# Altium footprint library PCB_Footprint.PcbLib: 124 footprints (part 4 of 8)
Each footprint in its own frame and in the unit in brackets; x right, y up, seen from the top. Pads: shape width x height; smd on the part's side, far side on the other; paste and mask are expansions set on the pad; w line width, h text height; cw(c..) or ccw(c..) is an arc to the next point about the centre after c.
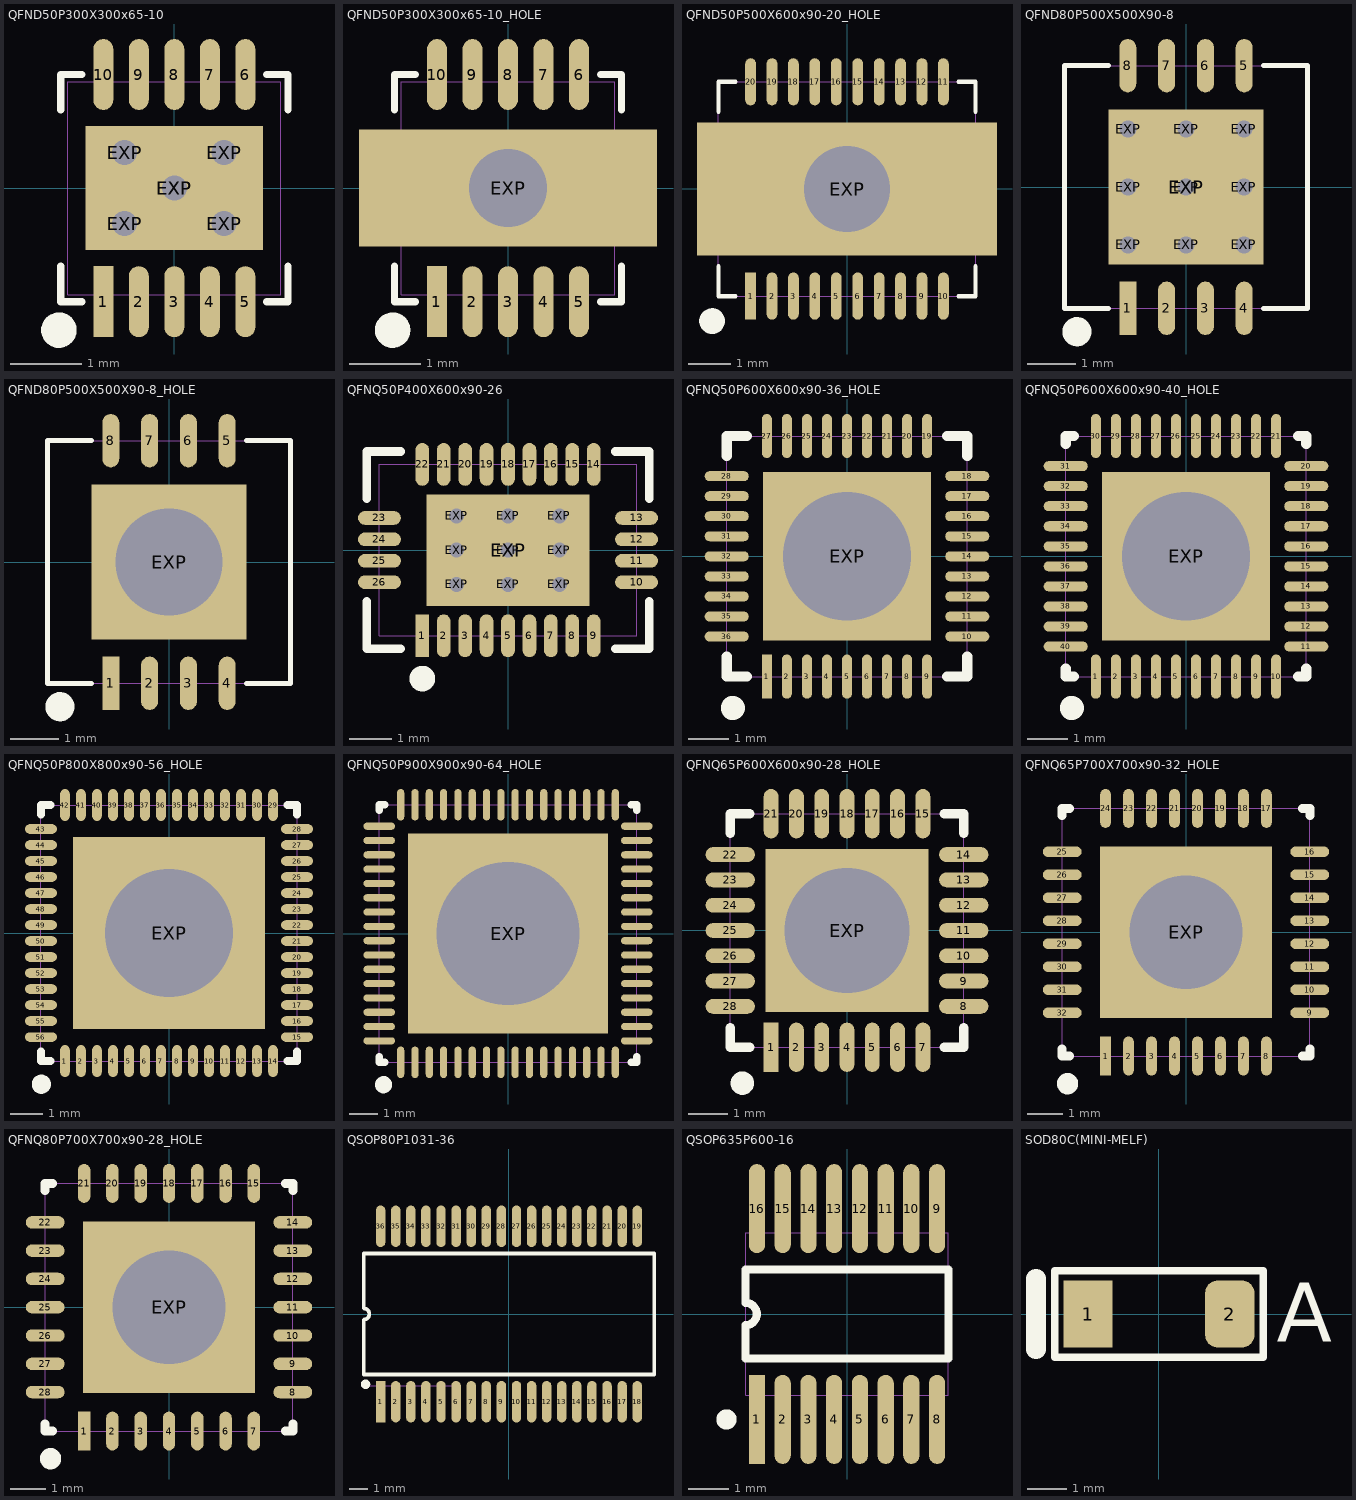
[diagram p3: the footprints below, top view; thin cyan lines are the x and y axes]

## QFND50P300X300x65-10 [mm] "QFN, 10-Leads, dual, Body 3x3x0.65mm, Pitch 0.5mm"
height 0.65
pads (16):
  rect 0.28x1 smd: 1(-1,-1.6)
  oval 0.28x1 smd: 2(-0.5,-1.6) 3(0,-1.6) 4(0.5,-1.6) 5(1,-1.6) 6(1,1.6) 7(0.5,1.6) 8(0,1.6) 9(-0.5,1.6) 10(-1,1.6)
  round 0.65 hole 0.35: EXP(-0.7,-0.5) EXP(-0.7,0.5) EXP(0,0) EXP(0.7,-0.5) EXP(0.7,0.5)
  rect 2.5x1.75 smd: EXP(0,0)
Top Overlay:
  circle w0.25: c-1.625,-2 r0.125
  lines w0.1: -1.6,-1.1 -1.6,-1.6 -1.3,-1.6 ; -1.6,1.1 -1.6,1.6 -1.3,1.6 ; 1.3,-1.6 1.6,-1.6 1.6,-1.1 ; 1.3,1.6 1.6,1.6 1.6,1.1
Bottom Solder:
  circle w0.4: c0,0 r0.2
Component Body:
  lines w0.01: -1.5,-1.5 1.5,-1.5 1.5,1.5 -1.5,1.5 -1.5,-1.5
3D body: height 0.65, standoff 0, extent -1.5,-1.5 1.5,1.5

## QFND50P300X300x65-10_HOLE [mm] "QFN, 10-Leads, dual, Body 3x3x0.65mm, Pitch 0.5mm, Hole in exposed pad"
height 0.65
pads (11):
  rect 0.28x1 smd: 1(-1,-1.6)
  oval 0.28x1 smd: 2(-0.5,-1.6) 3(0,-1.6) 4(0.5,-1.6) 5(1,-1.6) 6(1,1.6) 7(0.5,1.6) 8(0,1.6) 9(-0.5,1.6) 10(-1,1.6)
  rect 4.2x1.65 hole 1.1: EXP(0,0)
Top Overlay:
  circle w0.25: c-1.625,-2 r0.125
  lines w0.1: -1.6,-1.1 -1.6,-1.6 -1.3,-1.6 ; -1.6,1.1 -1.6,1.6 -1.3,1.6 ; 1.3,-1.6 1.6,-1.6 1.6,-1.1 ; 1.3,1.6 1.6,1.6 1.6,1.1
Component Body:
  lines w0.01: -1.5,-1.5 -1.5,1.5 1.5,1.5 1.5,-1.5 -1.5,-1.5
3D body: height 0.65, standoff 0, extent -1.5,-1.5 1.5,1.5

## QFND50P500X600x90-20_HOLE [mm] "QFN, 20-Leads, dual, Body 5x6x0.9mm, Pitch 0.5mm, Hole in exposed pad"
height 0.9
pads (21):
  rect 0.25x1.1 smd: 1(-2.25,-2.5)
  oval 0.25x1.1 smd: 2(-1.75,-2.5) 3(-1.25,-2.5) 4(-0.75,-2.5) 5(-0.25,-2.5) 6(0.25,-2.5) 7(0.75,-2.5) 8(1.25,-2.5) 9(1.75,-2.5) 10(2.25,-2.5) 11(2.25,2.5) 12(1.75,2.5) 13(1.25,2.5) 14(0.75,2.5) 15(0.25,2.5) 16(-0.25,2.5) 17(-0.75,2.5) 18(-1.25,2.5) 19(-1.75,2.5) 20(-2.25,2.5)
  rect 7x3.1 hole 2: EXP(0,-0.001)
Top Overlay:
  circle w0.3: c-3.148,-3.083 r0.15
  lines w0.102: -3,-1.8 -3,-2.5 -2.6,-2.5 ; -3,1.8 -3,2.5 -2.6,2.5 ; 2.6,-2.5 3,-2.5 3,-1.8 ; 2.6,2.5 3,2.5 3,1.8
Component Body:
  lines w0.01: -3,-2.5 -3,2.5 3,2.5 3,-2.5 -3,-2.5
3D body: height 0.9, standoff 0, extent -3,-2.5 3,2.5

## QFND80P500X500X90-8 [mm] "QFN, 8-Leads, dual (depopulated 16pin quad), Body 5x5x0.9mm, Pitch 0.8mm"
height 0.9
pads (18):
  rect 0.35x1.1 smd: 1(-1.2,-2.499)
  oval 0.35x1.1 smd: 2(-0.4,-2.499) 3(0.4,-2.499) 4(1.2,-2.499) 5(1.2,2.501) 6(0.4,2.501) 7(-0.4,2.501) 8(-1.2,2.501)
  round 0.65 hole 0.35: EXP(-1.194,-1.194) EXP(-1.194,0) EXP(-1.194,1.194) EXP(0,-1.194) EXP(0,0) EXP(0,1.194) EXP(1.194,-1.194) EXP(1.194,0) EXP(1.194,1.194)
  rect 3.2x3.2 smd: EXP(0,0)
Top Overlay:
  circle w0.3: c-2.248,-2.982 r0.15
  lines w0.102: -1.6,-2.499 -2.5,-2.499 -2.5,2.501 -1.6,2.501 ; 1.6,-2.499 2.5,-2.499 2.5,2.501 1.6,2.501
Bottom Solder:
  circle w0.4: c0,0 r0.2
Component Body:
  lines w0.01: -2.5,-2.499 2.5,-2.499 2.5,2.501 -2.5,2.501 -2.5,-2.499
3D body: height 0.9, standoff 0, extent -2.5,-2.499 2.5,2.501

## QFND80P500X500X90-8_HOLE [mm] "QFN, 8-Leads, dual (depopulated 16pin quad), Body 5x5x0.9mm, Pitch 0.8mm, Hole in exposed pad"
height 0.9
pads (9):
  rect 0.35x1.1 smd: 1(-1.2,-2.499)
  oval 0.35x1.1 smd: 2(-0.4,-2.499) 3(0.4,-2.499) 4(1.2,-2.499) 5(1.2,2.501) 6(0.4,2.501) 7(-0.4,2.501) 8(-1.2,2.501)
  rect 3.2x3.2 hole 2.2: EXP(0,0)
Top Overlay:
  circle w0.3: c-2.248,-2.982 r0.15
  lines w0.102: -1.6,-2.499 -2.5,-2.499 -2.5,2.501 -1.6,2.501 ; 1.6,-2.499 2.5,-2.499 2.5,2.501 1.6,2.501
Component Body:
  lines w0.01: -2.5,-2.499 -2.5,2.501 2.5,2.501 2.5,-2.499 -2.5,-2.499
3D body: height 0.9, standoff 0, extent -2.5,-2.499 2.5,2.501

## QFNQ50P400X600x90-26 [mm] "QFN, 26-Leads, quad, Body 4x6x0.9mm, Pitch 0.5mm"
height 0.9
pads (36):
  rect 0.32x1 smd: 1(-2,-2)
  oval 0.32x1 smd: 2(-1.5,-2) 3(-1,-2) 4(-0.5,-2) 5(0,-2) 6(0.5,-2) 7(1,-2) 8(1.5,-2) 9(2,-2) 14(2,2) 15(1.5,2) 16(1,2) 17(0.5,2) 18(0,2) 19(-0.5,2) 20(-1,2) 21(-1.5,2) 22(-2,2)
  oval 1x0.32 smd: 10(3,-0.75) 11(3,-0.25) 12(3,0.25) 13(3,0.75) 23(-3,0.75) 24(-3,0.25) 25(-3,-0.25) 26(-3,-0.75)
  round 0.65 hole 0.35: EXP(-1.2,-0.8) EXP(-1.2,0) EXP(-1.2,0.8) EXP(0,-0.8) EXP(0,0) EXP(0,0.8) EXP(1.2,-0.8) EXP(1.2,0) EXP(1.2,0.8)
  rect 3.8x2.6 smd: EXP(0,0)
Top Overlay:
  circle w0.3: c-2,-3 r0.15
  lines w0.2: -3.3,-1.2 -3.3,-2.3 -2.5,-2.3 ; -3.3,1.2 -3.3,2.3 -2.5,2.3 ; 2.5,-2.3 3.3,-2.3 3.3,-1.2 ; 2.5,2.3 3.3,2.3 3.3,1.2
Top Solder:
  lines w0.4: -1.8,-1.5 1.8,-1.5 ; -1.8,1.5 1.8,1.5
Bottom Solder:
  circle w0.4: c0,-0.001 r0.2
Component Body:
  lines w0.01: -3,-2 -3,2 3,2 3,-2 -3,-2
3D body: height 0.9, standoff 0, extent -3,-2 3,2

## QFNQ50P600X600x90-36_HOLE [mm] "QFN, 36-Leads, quad, Body 6x6x0.9mm, Pitch 0.5mm, Hole in exposed pad"
height 0.9
pads (37):
  rect 0.25x1.1 smd: 1(-2,-3)
  oval 0.25x1.1 smd: 2(-1.5,-3) 3(-1,-3) 4(-0.5,-3) 5(0,-3) 6(0.5,-3) 7(1,-3) 8(1.5,-3) 9(2,-3) 19(2,3) 20(1.5,3) 21(1,3) 22(0.5,3) 23(0,3) 24(-0.5,3) 25(-1,3) 26(-1.5,3) 27(-2,3)
  oval 1.1x0.25 smd: 10(3,-2) 11(3,-1.5) 12(3,-1) 13(3,-0.5) 14(3,0) 15(3,0.5) 16(3,1) 17(3,1.5) 18(3,2) 28(-3,2) 29(-3,1.5) 30(-3,1) 31(-3,0.5) 32(-3,0) 33(-3,-0.5) 34(-3,-1) 35(-3,-1.5) 36(-3,-2)
  rect 4.2x4.2 hole 3.2: EXP(0,-0.001)
Top Overlay:
  circle w0.3: c-2.848,-3.783 r0.15
  lines w0.254: -3,-2.5 -3,-3 -2.5,-3 ; -3,2.5 -3,3 -2.5,3 ; 2.5,-3 3,-3 3,-2.5 ; 2.5,3 3,3 3,2.5
Component Body:
  lines w0.01: -3,-3 -3,3 3,3 3,-3 -3,-3
3D body: height 0.9, standoff 0, extent -3,-3 3,3

## QFNQ50P600X600x90-40_HOLE [mm] "QFN, 40-Leads, quad, Body 6x6x0.9mm, Pitch 0.5mm, Hole in exposed pad"
height 0.9
pads (41):
  oval 0.25x1.1 smd: 1(-2.25,-3) 2(-1.75,-3) 3(-1.25,-3) 4(-0.75,-3) 5(-0.25,-3) 6(0.25,-3) 7(0.75,-3) 8(1.25,-3) 9(1.75,-3) 10(2.25,-3) 21(2.25,3) 22(1.75,3) 23(1.25,3) 24(0.75,3) 25(0.25,3) 26(-0.25,3) 27(-0.75,3) 28(-1.25,3) 29(-1.75,3) 30(-2.25,3)
  oval 1.1x0.25 smd: 11(3,-2.25) 12(3,-1.75) 13(3,-1.25) 14(3,-0.75) 15(3,-0.25) 16(3,0.25) 17(3,0.75) 18(3,1.25) 19(3,1.75) 20(3,2.25) 31(-3,2.25) 32(-3,1.75) 33(-3,1.25) 34(-3,0.75) 35(-3,0.25) 36(-3,-0.25) 37(-3,-0.75) 38(-3,-1.25) 39(-3,-1.75) 40(-3,-2.25)
  rect 4.2x4.2 hole 3.2: EXP(0,-0.001)
Top Overlay:
  circle w0.3: c-2.848,-3.783 r0.15
  lines w0.254: -3,-2.8 -3,-3 -2.8,-3 ; -3,2.8 -3,3 -2.8,3 ; 2.8,-3 3,-3 3,-2.8 ; 2.8,3 3,3 3,2.8
Component Body:
  lines w0.01: -3,-3 3,-3 3,3 -3,3 -3,-3
3D body: height 0.9, standoff 0, extent -3,-3 3,3

## QFNQ50P800X800x90-56_HOLE [mm] "QFN, 56-Leads, quad, Body 8x8x0.9mm, Pitch 0.5mm, Hole in exposed pad"
height 0.9
pads (57):
  oval 0.3x1 smd: 1(-3.25,-4) 2(-2.75,-4) 3(-2.25,-4) 4(-1.75,-4) 5(-1.25,-4) 6(-0.75,-4) 7(-0.25,-4) 8(0.25,-4) 9(0.75,-4) 10(1.25,-4) 11(1.75,-4) 12(2.25,-4) 13(2.75,-4) 14(3.25,-4) 29(3.25,4) 30(2.75,4) 31(2.25,4) 32(1.75,4) 33(1.25,4) 34(0.75,4) 35(0.25,4) 36(-0.25,4) 37(-0.75,4) 38(-1.25,4) 39(-1.75,4) 40(-2.25,4) 41(-2.75,4) 42(-3.25,4)
  oval 1x0.3 smd: 15(4,-3.25) 16(4,-2.75) 17(4,-2.25) 18(4,-1.75) 19(4,-1.25) 20(4,-0.75) 21(4,-0.25) 22(4,0.25) 23(4,0.75) 24(4,1.25) 25(4,1.75) 26(4,2.25) 27(4,2.75) 28(4,3.25) 43(-4,3.25) 44(-4,2.75) 45(-4,2.25) 46(-4,1.75) 47(-4,1.25) 48(-4,0.75) 49(-4,0.25) 50(-4,-0.25) 51(-4,-0.75) 52(-4,-1.25) 53(-4,-1.75) 54(-4,-2.25) 55(-4,-2.75) 56(-4,-3.25)
  rect 6x6 hole 4: EXP(0,0)
Top Overlay:
  circle w0.3: c-3.988,-4.723 r0.15
  lines w0.254: -4,-3.7 -4,-4 -3.7,-4 ; -4,3.7 -4,4 -3.7,4 ; 3.7,-4 4,-4 4,-3.7 ; 3.7,4 4,4 4,3.7
Component Body:
  lines w0.01: -4,-4 -4,4 4,4 4,-4 -4,-4
3D body: height 0.9, standoff 0, extent -4,-4 4,4

## QFNQ50P900X900x90-64_HOLE [mm] "QFN, 54-Leads, quad, Body 9x9x0.9mm, Pitch 0.5mm, Hole in exposed pad"
height 0.9
pads (65):
  oval 0.25x1.1 smd: 1(-3.75,-4.5) 2(-3.25,-4.5) 3(-2.75,-4.5) 4(-2.25,-4.5) 5(-1.75,-4.5) 6(-1.25,-4.5) 7(-0.75,-4.5) 8(-0.25,-4.5) 9(0.25,-4.5) 10(0.75,-4.5) 11(1.25,-4.5) 12(1.75,-4.5) 13(2.25,-4.5) 14(2.75,-4.5) 15(3.25,-4.5) 16(3.75,-4.5) 33(3.75,4.5) 34(3.25,4.5) 35(2.75,4.5) 36(2.25,4.5) 37(1.75,4.5) 38(1.25,4.5) 39(0.75,4.5) 40(0.25,4.5) 41(-0.25,4.5) 42(-0.75,4.5) 43(-1.25,4.5) 44(-1.75,4.5) 45(-2.25,4.5) 46(-2.75,4.5) 47(-3.25,4.5) 48(-3.75,4.5)
  oval 1.1x0.25 smd: 17(4.5,-3.75) 18(4.5,-3.25) 19(4.5,-2.75) 20(4.5,-2.25) 21(4.5,-1.75) 22(4.5,-1.25) 23(4.5,-0.75) 24(4.5,-0.25) 25(4.5,0.25) 26(4.5,0.75) 27(4.5,1.25) 28(4.5,1.75) 29(4.5,2.25) 30(4.5,2.75) 31(4.5,3.25) 32(4.5,3.75) 49(-4.5,3.75) 50(-4.5,3.25) 51(-4.5,2.75) 52(-4.5,2.25) 53(-4.5,1.75) 54(-4.5,1.25) 55(-4.5,0.75) 56(-4.5,0.25) 57(-4.5,-0.25) 58(-4.5,-0.75) 59(-4.5,-1.25) 60(-4.5,-1.75) 61(-4.5,-2.25) 62(-4.5,-2.75) 63(-4.5,-3.25) 64(-4.5,-3.75)
  rect 7x7 hole 5: EXP(0,-0.001)
Top Overlay:
  circle w0.3: c-4.348,-5.283 r0.15
  lines w0.254: -4.5,-4.3 -4.5,-4.5 -4.3,-4.5 ; -4.5,4.3 -4.5,4.5 -4.3,4.5 ; 4.3,-4.5 4.5,-4.5 4.5,-4.3 ; 4.3,4.5 4.5,4.5 4.5,4.3
Component Body:
  lines w0.01: -4.5,-4.5 -4.5,4.5 4.5,4.5 4.5,-4.5 -4.5,-4.5
3D body: height 0.9, standoff 0, extent -4.5,-4.5 4.5,4.5

## QFNQ65P600X600x90-28_HOLE [mm] "QFN, 28-Leads, quad, Body 6x6x0.9mm, Pitch 0.65mm, Hole in exposed pad"
height 0.9
pads (29):
  rect 0.381x1.27 smd: 1(-1.95,-3)
  oval 0.381x1.27 smd: 2(-1.3,-3) 3(-0.65,-3) 4(0,-3) 5(0.65,-3) 6(1.3,-3) 7(1.95,-3) 15(1.95,3) 16(1.3,3) 17(0.65,3) 18(0,3) 19(-0.65,3) 20(-1.3,3) 21(-1.95,3)
  oval 1.27x0.381 smd: 8(3,-1.95) 9(3,-1.3) 10(3,-0.65) 11(3,0) 12(3,0.65) 13(3,1.3) 14(3,1.95) 22(-3,1.95) 23(-3,1.3) 24(-3,0.65) 25(-3,0) 26(-3,-0.65) 27(-3,-1.3) 28(-3,-1.95)
  rect 4.2x4.2 hole 3.2: EXP(0,-0.001)
Top Overlay:
  circle w0.3: c-2.688,-3.923 r0.15
  lines w0.254: -3,-2.5 -3,-3 -2.5,-3 ; -3,2.5 -3,3 -2.5,3 ; 2.5,-3 3,-3 3,-2.5 ; 2.5,3 3,3 3,2.5
Component Body:
  lines w0.01: -3,-3 -3,3 3,3 3,-3 -3,-3
3D body: height 0.8, standoff 0, extent -3,-3 3,3

## QFNQ65P700X700x90-32_HOLE [mm] "QFN, 32-Leads, quad, Body 7x7x0.9mm, Pitch 0.65mm, Hole in exposed pad"
height 0.9
pads (33):
  rect 0.3x1.1 smd: 1(-2.275,-3.5)
  oval 0.3x1.1 smd: 2(-1.625,-3.5) 3(-0.975,-3.5) 4(-0.325,-3.5) 5(0.325,-3.5) 6(0.975,-3.5) 7(1.625,-3.5) 8(2.275,-3.5) 17(2.275,3.5) 18(1.625,3.5) 19(0.975,3.5) 20(0.325,3.5) 21(-0.325,3.5) 22(-0.975,3.5) 23(-1.625,3.5) 24(-2.275,3.5)
  oval 1.1x0.3 smd: 9(3.5,-2.275) 10(3.5,-1.625) 11(3.5,-0.975) 12(3.5,-0.325) 13(3.5,0.325) 14(3.5,0.975) 15(3.5,1.625) 16(3.5,2.275) 25(-3.5,2.275) 26(-3.5,1.625) 27(-3.5,0.975) 28(-3.5,0.325) 29(-3.5,-0.325) 30(-3.5,-0.975) 31(-3.5,-1.625) 32(-3.5,-2.275)
  rect 4.85x4.85 hole 3.2: EXP(0,-0.001)
Top Overlay:
  circle w0.3: c-3.348,-4.283 r0.15
  lines w0.254: -3.5,-3.3 -3.5,-3.5 -3.3,-3.5 ; -3.5,3.3 -3.5,3.5 -3.3,3.5 ; 3.3,-3.5 3.5,-3.5 3.5,-3.3 ; 3.3,3.5 3.5,3.5 3.5,3.3
Component Body:
  lines w0.01: -3.5,-3.5 3.5,-3.5 3.5,3.5 -3.5,3.5 -3.5,-3.5
3D body: height 0.9, standoff 0, extent -3.5,-3.5 3.5,3.5

## QFNQ80P700X700x90-28_HOLE [mm] "QFN, 28-Leads, quad, Body 7x7x0.9mm, Pitch 0.8mm, Hole in exposed pad"
height 0.9
pads (29):
  rect 0.35x1.1 smd: 1(-2.4,-3.5)
  oval 0.35x1.1 smd: 2(-1.6,-3.5) 3(-0.8,-3.5) 4(0,-3.5) 5(0.8,-3.5) 6(1.6,-3.5) 7(2.4,-3.5) 15(2.4,3.5) 16(1.6,3.5) 17(0.8,3.5) 18(0,3.5) 19(-0.8,3.5) 20(-1.6,3.5) 21(-2.4,3.5)
  oval 1.1x0.35 smd: 8(3.5,-2.4) 9(3.5,-1.6) 10(3.5,-0.8) 11(3.5,0) 12(3.5,0.8) 13(3.5,1.6) 14(3.5,2.4) 22(-3.5,2.4) 23(-3.5,1.6) 24(-3.5,0.8) 25(-3.5,0) 26(-3.5,-0.8) 27(-3.5,-1.6) 28(-3.5,-2.4)
  rect 4.85x4.85 hole 3.2: EXP(0,-0.001)
Top Overlay:
  circle w0.3: c-3.348,-4.283 r0.15
  lines w0.254: -3.5,-3.3 -3.5,-3.5 -3.3,-3.5 ; -3.5,3.3 -3.5,3.5 -3.3,3.5 ; 3.3,-3.5 3.5,-3.5 3.5,-3.3 ; 3.3,3.5 3.5,3.5 3.5,3.3
Component Body:
  lines w0.01: -3.5,-3.5 -3.5,3.5 3.5,3.5 3.5,-3.5 -3.5,-3.5
3D body: height 0.9, standoff 0, extent -3.5,-3.5 3.5,3.5

## QSOP80P1031-36 [mm] "QSOP; 36 Leads; Body Width 7.5 mm; Pitch 0.8 mm"
height 2.54
pads (36):
  rect 0.5x2.2 smd: 1(-6.8,-4.65)
  oval 0.5x2.2 smd: 2(-6,-4.65) 3(-5.2,-4.65) 4(-4.4,-4.65) 5(-3.6,-4.65) 6(-2.8,-4.65) 7(-2,-4.65) 8(-1.2,-4.65) 9(-0.4,-4.65) 10(0.4,-4.65) 11(1.2,-4.65) 12(2,-4.65) 13(2.8,-4.65) 14(3.6,-4.65) 15(4.4,-4.65) 16(5.2,-4.65) 17(6,-4.65) 18(6.8,-4.65) 19(6.8,4.65) 20(6,4.65) 21(5.2,4.65) 22(4.4,4.65) 23(3.6,4.65) 24(2.8,4.65) 25(2,4.65) 26(1.2,4.65) 27(0.4,4.65) 28(-0.4,4.65) 29(-1.2,4.65) 30(-2,4.65) 31(-2.8,4.65) 32(-3.6,4.65) 33(-4.4,4.65) 34(-5.2,4.65) 35(-6,4.65) 36(-6.8,4.65)
Top Overlay:
  circle w0.25: c-7.6,-3.725 r0.125
  lines w0.2: -7.7,-3.2 7.7,-3.2 7.7,3.2 -7.7,3.2 -7.7,0.3 cw(c-7.7,0) -7.7,-0.3 -7.7,-3.2
Component Body:
  lines w0.01: -7.7,-3.8 -2.7,-3.8
3D body: height 2.54, standoff 0, extent -7.7,-3.8 7.7,3.8
3D body: height 0.3, standoff 0, extent -0.6,-5.25 -0.2,-4
3D body: height 1.4, standoff 0, extent -0.6,-4.3 -0.2,-4
3D body: height 1.4, standoff 1.1, extent -0.6,-4.3 -0.2,-3.8
3D body: height 0.3, standoff 0, extent -1.4,-5.25 -1,-4
3D body: height 1.4, standoff 0, extent -1.4,-4.3 -1,-4
3D body: height 1.4, standoff 1.1, extent -1.4,-4.3 -1,-3.8
3D body: height 0.3, standoff 0, extent -2.2,-5.25 -1.8,-4
3D body: height 1.4, standoff 0, extent -2.2,-4.3 -1.8,-4
3D body: height 1.4, standoff 1.1, extent -2.2,-4.3 -1.8,-3.8
3D body: height 0.3, standoff 0, extent -3,-5.25 -2.6,-4
3D body: height 1.4, standoff 0, extent -3,-4.3 -2.6,-4
3D body: height 1.4, standoff 1.1, extent -3,-4.3 -2.6,-3.8
3D body: height 0.3, standoff 0, extent -3.8,-5.25 -3.4,-4
3D body: height 1.4, standoff 0, extent -3.8,-4.3 -3.4,-4
3D body: height 1.4, standoff 1.1, extent -3.8,-4.3 -3.4,-3.8
3D body: height 0.3, standoff 0, extent -4.6,-5.25 -4.2,-4
3D body: height 1.4, standoff 0, extent -4.6,-4.3 -4.2,-4
3D body: height 1.4, standoff 1.1, extent -4.6,-4.3 -4.2,-3.8
3D body: height 0.3, standoff 0, extent -5.4,-5.25 -5,-4
3D body: height 1.4, standoff 0, extent -5.4,-4.3 -5,-4
3D body: height 1.4, standoff 1.1, extent -5.4,-4.3 -5,-3.8
3D body: height 0.3, standoff 0, extent -6.2,-5.25 -5.8,-4
3D body: height 1.4, standoff 0, extent -6.2,-4.3 -5.8,-4
3D body: height 1.4, standoff 1.1, extent -6.2,-4.3 -5.8,-3.8
3D body: height 0.3, standoff 0, extent -7,-5.25 -6.6,-4
3D body: height 1.4, standoff 0, extent -7,-4.3 -6.6,-4
3D body: height 1.4, standoff 1.1, extent -7,-4.3 -6.6,-3.8
3D body: height 1.4, standoff 1.1, extent 6.6,-4.3 7,-3.8
3D body: height 1.4, standoff 0, extent 6.6,-4.3 7,-4
3D body: height 0.3, standoff 0, extent 6.6,-5.25 7,-4
3D body: height 1.4, standoff 1.1, extent 5.8,-4.3 6.2,-3.8
3D body: height 1.4, standoff 0, extent 5.8,-4.3 6.2,-4
3D body: height 0.3, standoff 0, extent 5.8,-5.25 6.2,-4
3D body: height 1.4, standoff 1.1, extent 5,-4.3 5.4,-3.8
3D body: height 1.4, standoff 0, extent 5,-4.3 5.4,-4
3D body: height 0.3, standoff 0, extent 5,-5.25 5.4,-4
3D body: height 1.4, standoff 1.1, extent 4.2,-4.3 4.6,-3.8
3D body: height 1.4, standoff 0, extent 4.2,-4.3 4.6,-4
3D body: height 0.3, standoff 0, extent 4.2,-5.25 4.6,-4
3D body: height 1.4, standoff 1.1, extent 3.4,-4.3 3.8,-3.8
3D body: height 1.4, standoff 0, extent 3.4,-4.3 3.8,-4
3D body: height 0.3, standoff 0, extent 3.4,-5.25 3.8,-4
3D body: height 1.4, standoff 1.1, extent 2.6,-4.3 3,-3.8
3D body: height 1.4, standoff 0, extent 2.6,-4.3 3,-4
3D body: height 0.3, standoff 0, extent 2.6,-5.25 3,-4
3D body: height 1.4, standoff 1.1, extent 1.8,-4.3 2.2,-3.8
3D body: height 1.4, standoff 0, extent 1.8,-4.3 2.2,-4
3D body: height 0.3, standoff 0, extent 1.8,-5.25 2.2,-4
3D body: height 1.4, standoff 1.1, extent 1,-4.3 1.4,-3.8
3D body: height 1.4, standoff 0, extent 1,-4.3 1.4,-4
3D body: height 0.3, standoff 0, extent 1,-5.25 1.4,-4
3D body: height 1.4, standoff 1.1, extent 0.2,-4.3 0.6,-3.8
3D body: height 1.4, standoff 0, extent 0.2,-4.3 0.6,-4
3D body: height 0.3, standoff 0, extent 0.2,-5.25 0.6,-4
3D body: height 0.3, standoff 0, extent -0.6,4 -0.2,5.25
3D body: height 1.4, standoff 0, extent -0.6,4 -0.2,4.3
3D body: height 1.4, standoff 1.1, extent -0.6,3.8 -0.2,4.3
3D body: height 0.3, standoff 0, extent -1.4,4 -1,5.25
3D body: height 1.4, standoff 0, extent -1.4,4 -1,4.3
3D body: height 1.4, standoff 1.1, extent -1.4,3.8 -1,4.3
3D body: height 0.3, standoff 0, extent -2.2,4 -1.8,5.25
3D body: height 1.4, standoff 0, extent -2.2,4 -1.8,4.3
3D body: height 1.4, standoff 1.1, extent -2.2,3.8 -1.8,4.3
3D body: height 0.3, standoff 0, extent -3,4 -2.6,5.25
3D body: height 1.4, standoff 0, extent -3,4 -2.6,4.3
3D body: height 1.4, standoff 1.1, extent -3,3.8 -2.6,4.3
3D body: height 0.3, standoff 0, extent -3.8,4 -3.4,5.25
3D body: height 1.4, standoff 0, extent -3.8,4 -3.4,4.3
3D body: height 1.4, standoff 1.1, extent -3.8,3.8 -3.4,4.3
3D body: height 0.3, standoff 0, extent -4.6,4 -4.2,5.25
3D body: height 1.4, standoff 0, extent -4.6,4 -4.2,4.3
3D body: height 1.4, standoff 1.1, extent -4.6,3.8 -4.2,4.3
3D body: height 0.3, standoff 0, extent -5.4,4 -5,5.25
3D body: height 1.4, standoff 0, extent -5.4,4 -5,4.3
3D body: height 1.4, standoff 1.1, extent -5.4,3.8 -5,4.3
3D body: height 0.3, standoff 0, extent -6.2,4 -5.8,5.25
3D body: height 1.4, standoff 0, extent -6.2,4 -5.8,4.3
3D body: height 1.4, standoff 1.1, extent -6.2,3.8 -5.8,4.3
3D body: height 0.3, standoff 0, extent -7,4 -6.6,5.25
3D body: height 1.4, standoff 0, extent -7,4 -6.6,4.3
3D body: height 1.4, standoff 1.1, extent -7,3.8 -6.6,4.3
3D body: height 1.4, standoff 1.1, extent 6.6,3.8 7,4.3
3D body: height 1.4, standoff 0, extent 6.6,4 7,4.3
3D body: height 0.3, standoff 0, extent 6.6,4 7,5.25
3D body: height 1.4, standoff 1.1, extent 5.8,3.8 6.2,4.3
3D body: height 1.4, standoff 0, extent 5.8,4 6.2,4.3
3D body: height 0.3, standoff 0, extent 5.8,4 6.2,5.25
3D body: height 1.4, standoff 1.1, extent 5,3.8 5.4,4.3
3D body: height 1.4, standoff 0, extent 5,4 5.4,4.3
3D body: height 0.3, standoff 0, extent 5,4 5.4,5.25
3D body: height 1.4, standoff 1.1, extent 4.2,3.8 4.6,4.3
3D body: height 1.4, standoff 0, extent 4.2,4 4.6,4.3
3D body: height 0.3, standoff 0, extent 4.2,4 4.6,5.25
3D body: height 1.4, standoff 1.1, extent 3.4,3.8 3.8,4.3
3D body: height 1.4, standoff 0, extent 3.4,4 3.8,4.3
3D body: height 0.3, standoff 0, extent 3.4,4 3.8,5.25
3D body: height 1.4, standoff 1.1, extent 2.6,3.8 3,4.3
3D body: height 1.4, standoff 0, extent 2.6,4 3,4.3
3D body: height 0.3, standoff 0, extent 2.6,4 3,5.25
3D body: height 1.4, standoff 1.1, extent 1.8,3.8 2.2,4.3
3D body: height 1.4, standoff 0, extent 1.8,4 2.2,4.3
3D body: height 0.3, standoff 0, extent 1.8,4 2.2,5.25
3D body: height 1.4, standoff 1.1, extent 1,3.8 1.4,4.3
3D body: height 1.4, standoff 0, extent 1,4 1.4,4.3
3D body: height 0.3, standoff 0, extent 1,4 1.4,5.25
3D body: height 1.4, standoff 1.1, extent 0.2,3.8 0.6,4.3
3D body: height 1.4, standoff 0, extent 0.2,4 0.6,4.3
3D body: height 0.3, standoff 0, extent 0.2,4 0.6,5.25

## QSOP635P600-16 [mm] "QSOP; 16 Leads; Body Width 3.9 mm; Pitch 0.635 mm"
height 1.76
pads (16):
  rect 0.4x2.2 smd: 1(-2.222,-2.6)
  oval 0.4x2.2 smd: 2(-1.587,-2.6) 3(-0.953,-2.6) 4(-0.318,-2.6) 5(0.318,-2.6) 6(0.953,-2.6) 7(1.587,-2.6) 8(2.222,-2.6) 9(2.222,2.6) 10(1.587,2.6) 11(0.953,2.6) 12(0.318,2.6) 13(-0.318,2.6) 14(-0.953,2.6) 15(-1.587,2.6) 16(-2.222,2.6)
Top Overlay:
  circle w0.25: c-2.973,-2.6 r0.125
  lines w0.2: -2.5,-1.1 2.5,-1.1 2.5,1.1 -2.5,1.1 -2.5,0.275 cw(c-2.5,0) -2.5,-0.275 -2.5,-1.1
Component Body:
  lines w0.01: -2.5,-2 -2.5,2 2.5,2 2.5,-2 -2.5,-2
3D body: height 0.2, standoff 0, extent 2.073,2.3 2.373,3.1
3D body: height 0.75, standoff 0.1, extent 2.073,2.3 2.373,2.5
3D body: height 0.95, standoff 0.75, extent 2.073,2 2.373,2.5
3D body: height 0.2, standoff 0, extent 1.438,2.3 1.738,3.1
3D body: height 0.75, standoff 0.1, extent 1.438,2.3 1.738,2.5
3D body: height 0.95, standoff 0.75, extent 1.438,2 1.738,2.5
3D body: height 0.2, standoff 0, extent 0.803,2.3 1.103,3.1
3D body: height 0.75, standoff 0.1, extent 0.803,2.3 1.103,2.5
3D body: height 0.95, standoff 0.75, extent 0.803,2 1.103,2.5
3D body: height 0.2, standoff 0, extent 0.168,2.3 0.468,3.1
3D body: height 0.75, standoff 0.1, extent 0.168,2.3 0.468,2.5
3D body: height 0.95, standoff 0.75, extent 0.168,2 0.468,2.5
3D body: height 0.2, standoff 0, extent -0.467,2.3 -0.167,3.1
3D body: height 0.75, standoff 0.1, extent -0.467,2.3 -0.167,2.5
3D body: height 0.95, standoff 0.75, extent -0.467,2 -0.167,2.5
3D body: height 0.2, standoff 0, extent -1.102,2.3 -0.802,3.1
3D body: height 0.75, standoff 0.1, extent -1.102,2.3 -0.802,2.5
3D body: height 0.95, standoff 0.75, extent -1.102,2 -0.802,2.5
3D body: height 0.2, standoff 0, extent -1.737,2.3 -1.437,3.1
3D body: height 0.75, standoff 0.1, extent -1.737,2.3 -1.437,2.5
3D body: height 0.95, standoff 0.75, extent -1.737,2 -1.437,2.5
3D body: height 0.2, standoff 0, extent -2.372,2.3 -2.072,3.1
3D body: height 0.75, standoff 0.1, extent -2.372,2.3 -2.072,2.5
3D body: height 0.95, standoff 0.75, extent -2.372,2 -2.072,2.5
3D body: height 0.95, standoff 0.75, extent 2.072,-2.5 2.372,-2
3D body: height 0.75, standoff 0.1, extent 2.072,-2.5 2.372,-2.3
3D body: height 0.2, standoff 0, extent 2.072,-3.1 2.372,-2.3
3D body: height 0.95, standoff 0.75, extent 1.437,-2.5 1.737,-2
3D body: height 0.75, standoff 0.1, extent 1.437,-2.5 1.737,-2.3
3D body: height 0.2, standoff 0, extent 1.437,-3.1 1.737,-2.3
3D body: height 0.95, standoff 0.75, extent 0.802,-2.5 1.102,-2
3D body: height 0.75, standoff 0.1, extent 0.802,-2.5 1.102,-2.3
3D body: height 0.2, standoff 0, extent 0.802,-3.1 1.102,-2.3
3D body: height 0.95, standoff 0.75, extent 0.167,-2.5 0.467,-2
3D body: height 0.75, standoff 0.1, extent 0.167,-2.5 0.467,-2.3
3D body: height 0.2, standoff 0, extent 0.167,-3.1 0.467,-2.3
3D body: height 0.95, standoff 0.75, extent -0.468,-2.5 -0.168,-2
3D body: height 0.75, standoff 0.1, extent -0.468,-2.5 -0.168,-2.3
3D body: height 0.2, standoff 0, extent -0.468,-3.1 -0.168,-2.3
3D body: height 0.95, standoff 0.75, extent -1.103,-2.5 -0.803,-2
3D body: height 0.75, standoff 0.1, extent -1.103,-2.5 -0.803,-2.3
3D body: height 0.2, standoff 0, extent -1.103,-3.1 -0.803,-2.3
3D body: height 0.95, standoff 0.75, extent -1.738,-2.5 -1.438,-2
3D body: height 0.75, standoff 0.1, extent -1.738,-2.5 -1.438,-2.3
3D body: height 0.2, standoff 0, extent -1.738,-3.1 -1.438,-2.3
3D body: height 0.95, standoff 0.75, extent -2.373,-2.5 -2.073,-2
3D body: height 0.75, standoff 0.1, extent -2.373,-2.5 -2.073,-2.3
3D body: height 0.2, standoff 0, extent -2.373,-3.1 -2.073,-2.3
3D body: height 1.75, standoff 0, extent -2.5,-2 2.5,2

## SOD80C(MINI-MELF) [mm] "Metal Electrode Face (MELF) Diode; Body 3.5 x 1.6 mm (LxDia)"
height 1.6
pads (2):
  rect 1.25x1.7 smd: 1(-1.8,0)
  rrect50% 1.25x1.7 smd: 2(1.8,0)
Top Overlay:
  lines w0.2: -2.65,-1.1 -2.65,1.1 2.65,1.1 2.65,-1.1 -2.65,-1.1
  lines w0.5: -3.125,-0.9 -3.125,0.9
  text "A" at 3,-0.7 h1.5
3D body: height 1.59, standoff 0, extent -1.85,-0.798 1.85,0.798